# EAGLE library part LMZ120* (library ti)
LMZ12010 10-A SIMPLE SWITCHER® Power Module With 20-V Maximum Input Voltage
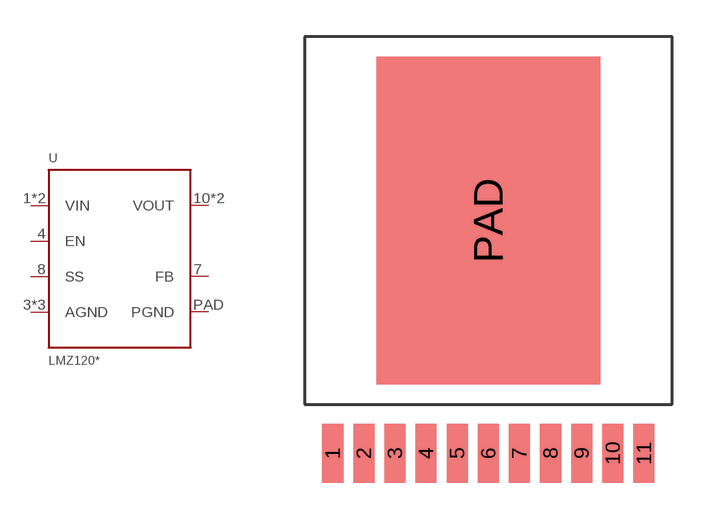
[diagram p6: symbol with the pads of 11PFM; footprint 11PFM]

Designator prefix U

## LMZ12010  [11PFM]
1  VIN  pwr
2  VIN  pwr
3  AGND  pwr
4  EN  in
5  AGND  pwr
6  AGND  pwr
7  FB  in
8  SS  pas
10  VOUT  pas
11  VOUT  pas
PAD  PGND  pwr

## Footprint 11PFM (pad centres in mm)
smd 0.86 x 2.41: 1 -6.35,-9.5; 2 -5.08,-9.5; 3 -3.81,-9.5; 4 -2.54,-9.5; 5 -1.27,-9.5; 6 0,-9.5; 7 1.27,-9.5; 8 2.54,-9.5; 9 3.81,-9.5; 10 5.08,-9.5; 11 6.35,-9.5
smd 9.126 x 13.37: PAD 0,0